# Altium footprint library SDIP_4L.PcbLib: 1 footprints
Each footprint in its own frame and in the unit in brackets; x right, y up, seen from the top. Pads: shape width x height; smd on the part's side, far side on the other; paste and mask are expansions set on the pad; w line width, h text height; cw(c..) or ccw(c..) is an arc to the next point about the centre after c.
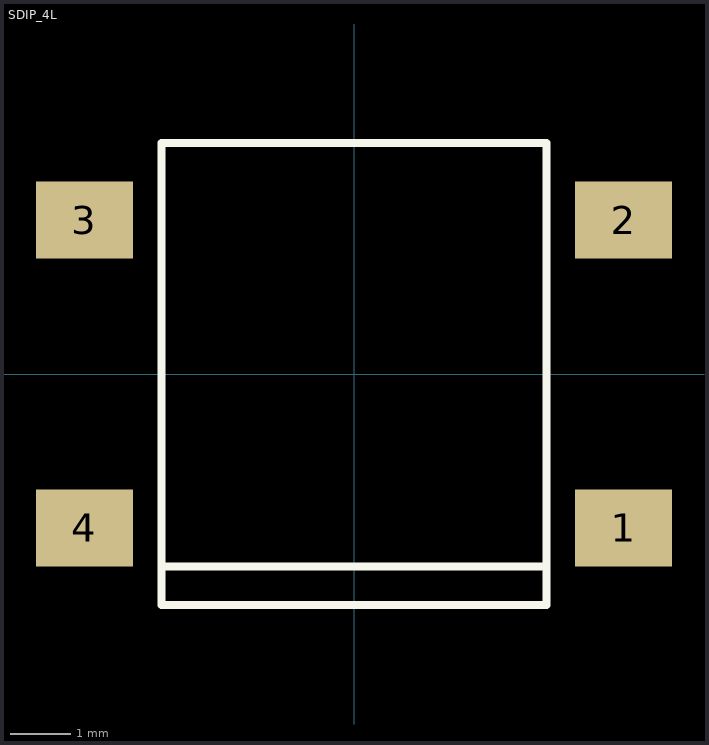
[diagram p0: the footprint, top view; thin cyan lines are the x and y axes]

## SDIP_4L [mm] "SDIP"
height 2.6
pads (4):
  rect 1.6x1.27 smd: 1(4.45,-2.54) 2(4.45,2.54) 3(-4.45,2.54) 4(-4.45,-2.54)
Top Overlay:
  lines w0.127: -3.175,-3.175 3.175,-3.175 3.175,3.81 ; 3.175,3.81 3.175,-3.81 -3.175,-3.81 -3.175,3.81 3.175,3.81
3D body: height 3.63, standoff 0, extent -5,-4.25 5,4.25